# EAGLE library part MC13-G (library con-phoenix-381)
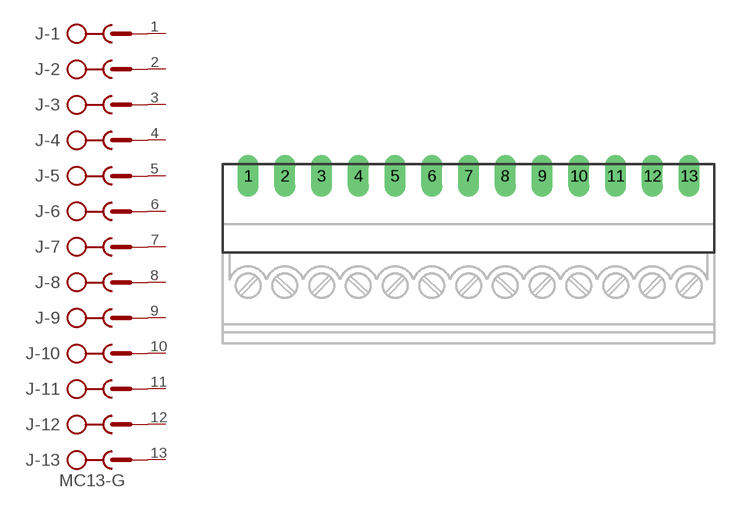
[diagram p40: symbol with the pads of MC13-G; footprint MC13-G]

Designator prefix J; gates -1=SK -2=SK -3=SK -4=SK -5=SK -6=SK -8=SK -9=SK -10=SK -11=SK -12=SK -13=SK+V -7=SK

## MC13-G  [MC13-G]
1  -1:SK  pas
2  -2:SK  pas
3  -3:SK  pas
4  -4:SK  pas
5  -5:SK  pas
6  -6:SK  pas
7  -7:SK  pas
8  -8:SK  pas
9  -9:SK  pas
10  -10:SK  pas
11  -11:SK  pas
12  -12:SK  pas
13  -13:SK  pas

## Footprint MC13-G (pad centres in mm)
drill 1.27 pad 2.184 long: 1 -22.86,0; 2 -19.05,0; 3 -15.24,0; 4 -11.43,0; 5 -7.62,0; 6 -3.81,0; 7 0,0; 8 3.81,0; 9 7.62,0; 10 11.43,0; 11 15.24,0; 12 19.05,0; 13 22.86,0